# Altium schematic symbol library TRANS NPN 45V 800MA SOT-23.SchLib: 1 symbol
Pins are listed as number, name and electrical type; pins without a type are passive.

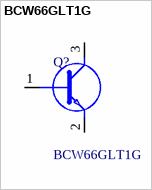
[diagram p0: symbol BCW66GLT1G]

## BCW66GLT1G
designator Q?
NPN Bipolar Transistor; Manufacturer_Name: onsemi; Geometry.Height: 1.11mm; Manufacturer_Part_Number: BCW66GLT1G; Mouser Part Number: 863-BCW66GLT1G; Mouser Price/Stock: https://www.mouser.co.uk/ProductDetail/onsemi/BCW66GLT1G?qs=R2UZ7gjkEjKs0bN2RlXbWw%3D%3D; Arrow Part Number: BCW66GLT1G; Arrow Price/Stock: https://www.arrow.com/en/products/bcw66glt1g/on-semiconductor?region=nac; Datasheet Link: http://www.onsemi.com/pub/Collateral/BCW66GLT1-D.PDF
footprint SOT95P237X111-3N
pins: 1 B, 2 E, 3 C